# Altium schematic symbol library 2PIN_TERM_BLOCK (1).SchLib: 1 symbol
Pins are listed as number, name and electrical type; pins without a type are passive.

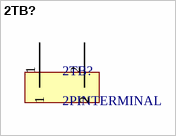
[diagram p0: symbol 2TB?]

## 2TB?
designator 2TB?, comment 2PINTERMINAL
footprint 2 PIN TERMINAL BLOCK
pins: 1, 2